# Altium schematic symbol library LOGTURTLE_APR_25_TX.SCHLIB: 138 symbols (part 2 of 2)
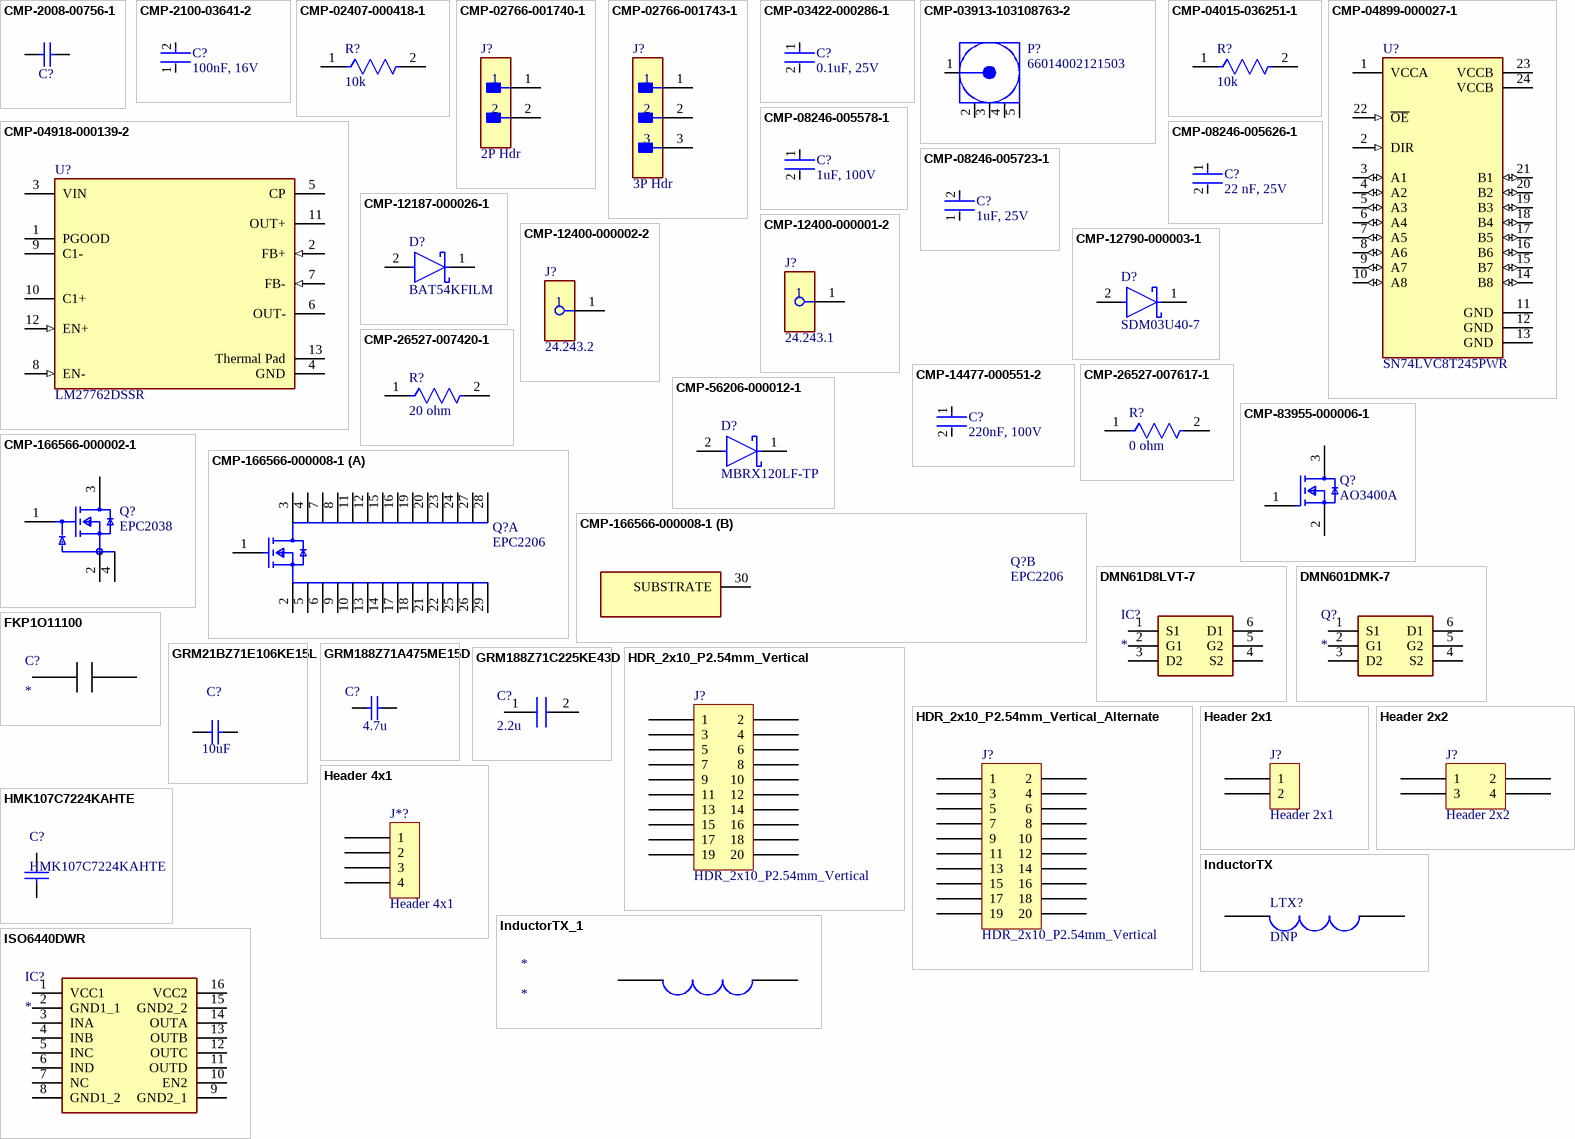
[diagram p5: symbols CMP-2008-00756-1 to ISO6440DWR]

## CMP-166566-000008-1
designator Q?, comment EPC2206
GANFET N-CH 80V 90A DIE; Input Capacitance: 1.94nF; Rds On Max: 2.2mR; Max Operating Temperature: 150°C; Drain to Source Voltage (Vdss): 80V; Packaging: Tape and Reel; Continuous Drain Current (ID): 90A; Mount: Surface Mount; Min Operating Temperature: -40°C
footprint FP-EPC2206-MFG
part A pins: 1 GATE, 2 SOURCE, 3 DRAIN, 4 DRAIN, 5 SOURCE, 6 SOURCE, 7 DRAIN, 8 DRAIN, 9 SOURCE, 10 SOURCE, 11 DRAIN, 12 DRAIN, 13 SOURCE, 14 SOURCE, 15 DRAIN, 16 DRAIN, 17 SOURCE, 18 SOURCE, 19 DRAIN, 20 DRAIN, 21 SOURCE, 22 SOURCE, 23 DRAIN, 24 DRAIN, 25 SOURCE, 26 SOURCE, 27 DRAIN, 28 DRAIN, 29 SOURCE
part B pins: 30 SUBSTRATE

## DMN61D8LVT-7
designator IC?
Integrated Circuit; Manufacturer_Name: Diodes Incorporated; Manufacturer_Part_Number: DMN61D8LVT-7; Datasheet Link: https://datasheet.datasheetarchive.com/originals/distributors/DKDS-29/577254.pdf; Height: 1mm; Mouser Part Number: 621-DMN61D8LVT-7; Mouser Price/Stock: https://www.mouser.co.uk/ProductDetail/Diodes-Incorporated/DMN61D8LVT-7?qs=HTMysCtKn0Fg7rO8GSpFlA%3D%3D; Arrow Part Number: DMN61D8LVT-7; Arrow Price/Stock: https://www.arrow.com/en/products/dmn61d8lvt-7/diodes-incorporated?region=nac
footprint SOT95P280X100-6N
pins: 1 S1, 2 G1, 3 D2, 4 S2, 5 G2, 6 D1

## DMN601DMK-7
designator Q?
MOSFET (N-Channel); Manufacturer_Name: Diodes Incorporated; Manufacturer_Part_Number: DMN601DMK-7; Datasheet Link: https://www.diodes.com//assets/Datasheets/ds30657.pdf; Height: 1.4mm; Mouser Part Number: 621-DMN601DMK-7; Mouser Price/Stock: https://www.mouser.co.uk/ProductDetail/Diodes-Incorporated/DMN601DMK-7?qs=mQbszxtPdlMzhImbd%2FELhA%3D%3D; Arrow Part Number: DMN601DMK-7; Arrow Price/Stock: https://www.arrow.com/en/products/dmn601dmk-7/diodes-incorporated
footprint SOT95P285X140-6N
pins: 1 S1, 2 G1, 3 D2, 4 S2, 5 G2, 6 D1

## FKP1O11100
designator C?
pins: 15, 16

## GRM21BZ71E106KE15L
designator C?, comment value 10uF  (hidden comment: 10μF)
Multilayer Ceramic Capacitor, 10 uF, 25 V, ï¿½ 10%, X7R, 0805 [2012 Metric] https://www.digikey.ie/en/products/detail/murata-electronics/GRM21BZ71E106KE15L/13904911; Manufacturer: Murata; Material: 4241ConductorMaterial; Voltage Rating: 25V; Supplier: Future Electronics; Supplier Part Number: 6134628; Manufacturer Part Number: GRM21BZ71E106KE15L; Category: Ceramic Capacitors; Stock: 81000; Case/Package: 339Case; Min Operating Temperature: -55°C; Max Operating Temperature: 125°C; Tolerance: 10%; Length: 2mm; Width: 1.25mm; Height: 1.45mm; Thickness: 1.25mm; RoHS Compliant: Yes; ComponentLink1URL: https://datasheet.octopart.com/GRM21BZ71E106KE15L-Murata-datasheet-141278873.pdf?src-supplier=Geoflip; ComponentLink1Description: https://datasheet.octopart.com/GRM21BZ71E106KE15L-Murata-datasheet-141278873.pdf?src-supplier=Geoflip; ComponentLink2URL: https://datasheet.octopart.com/GRM21BZ71E106KE15L-Murata-datasheet-165579666.pdf?src-supplier=TME; ComponentLink2Description: https://datasheet.octopart.com/GRM21BZ71E106KE15L-Murata-datasheet-165579666.pdf?src-supplier=TME; ComponentLink3URL: https://datasheet.octopart.com/GRM21BZ71E106KE15L-Murata-datasheet-140707837.pdf?src-supplier=Ciiva+Crawler; ComponentLink3Description: https://datasheet.octopart.com/GRM21BZ71E106KE15L-Murata-datasheet-140707837.pdf?src-supplier=Ciiva+Crawler; ComponentLink4URL: https://datasheet.octopart.com/GRM21BZ71E106KE15L-Murata-datasheet-138745134.pdf?src-supplier=Ciiva+Crawler; ComponentLink4Description: https://datasheet.octopart.com/GRM21BZ71E106KE15L-Murata-datasheet-138745134.pdf?src-supplier=Ciiva+Crawler
footprint CAPC2012X14N (Chip Capacitor, 2-Leads, Body 2.00x1.25mm, IPC Medium Density)
pins: 1, 2

## GRM188Z71A475ME15D
designator C?  value 4.7u  (hidden comment: *)
Capacitor, 4.7 µF ±20% 10V Ceramic Capacitor X7R 0603 (1608 Metric); Manufacturer_Name: Murata Electronics; Manufacturer_Part_Number: GRM188Z71A475ME15D; Datasheet Link: https://search.murata.co.jp/Ceramy/image/img/A01X/G101/ENG/GRM188Z71A475ME15-01A.pdf; Height: 0.9mm; Mouser Part Number: 81-GRM188Z71A475ME5D; Mouser Price/Stock: https://www.mouser.co.uk/ProductDetail/Murata-Electronics/GRM188Z71A475ME15D?qs=Ey7%2FXF42M3f7ZZnF1u%2FoMQ%3D%3D; Arrow Part Number: GRM188Z71A475ME15D; Arrow Price/Stock: https://www.arrow.com/en/products/grm188z71a475me15d/murata-manufacturing?utm_currency=USD&region=nac
footprint GRM18x
pins: 1, 2

## GRM188Z71C225KE43D
designator C?, comment 2.2u
Capacitor, 2.2 µF ±10% 16V Ceramic Capacitor X7R 0603 (1608 Metric); Manufacturer_Name: Murata Electronics; Manufacturer_Part_Number: GRM188Z71C225KE43D; Datasheet Link: https://search.murata.co.jp/Ceramy/image/img/A01X/G101/ENG/GRM188Z71C225KE43-01A.pdf; Height: 0.9mm; Mouser Part Number: 81-GRM188Z71C225KE3D; Mouser Price/Stock: https://www.mouser.co.uk/ProductDetail/Murata-Electronics/GRM188Z71C225KE43D?qs=Ey7%2FXF42M3cR7ECLHyzpoA%3D%3D; Arrow Part Number: GRM188Z71C225KE43D; Arrow Price/Stock: https://www.arrow.com/en/products/grm188z71c225ke43d/murata-manufacturing?utm_currency=USD&region=europe
footprint CAPC1608X09N (Chip Capacitor, 2-Leads, Body 1.60x0.80mm, IPC Medium Density)
pins: 1, 2

## HDR_2x10_P2.54mm_Vertical
designator J?
footprint HDR_2x10_P2.54mm_Vertical
pins: 1, 2, 3, 4, 5, 6, 7, 8, 9, 10, 11, 12, 13, 14, 15, 16, 17, 18, 19, 20

## HDR_2x10_P2.54mm_Vertical_Alternate
designator J?, comment HDR_2x10_P2.54mm_Vertical
footprint HDR_2x10_P2.54mm_Vertical - Alternate
pins: 1, 2, 3, 4, 5, 6, 7, 8, 9, 10, 11, 12, 13, 14, 15, 16, 17, 18, 19, 20

## Header 2x1
designator J?
footprint drrv (Footprint not found)
footprint HDRV2W64P0X254_1X2_508X250X850P
pins: 1, 2

## Header 2x2
designator J?
Connector Header Through Hole 4 position 0.100" (2.54mm), PH2-04-UA
footprint HEADER 2x2 (4 Pins Stiftleiste, 2.54mm)
pins: 1, 2, 3, 4

## Header 4x1
designator J*?
footprint HDRV4W64P0X254_1X4_1016X250X901P
pins: 1, 2, 3, 4

## HMK107C7224KAHTE
designator C?
Capacitor; Manufacturer_Name: TAIYO YUDEN; Capacitance: 100nF; Datasheet Link: https://componentsearchengine.com/Datasheets/1/HMK107C7224KAHTE.pdf; Height: 0.9mm; Manufacturer_Part_Number: HMK107C7224KAHTE; Mouser Part Number: 963-HMK107C7224KAHTE; Mouser Price/Stock: https://www.mouser.co.uk/ProductDetail/Taiyo-Yuden/HMK107C7224KAHTE?qs=VWNNG7jHlrKdSvXhIn%252BDVA%3D%3D
footprint CAPC1608X90N
pins: 1, 2

## InductorTX
designator LTX?, comment DNP
footprint SRN80408R2Y
footprint InductorTerminals
pins: 1, 2

## InductorTX_1
designator *
footprint InductorTerminals
pins: 12, + 13

## ISO6440DWR
designator IC?
Texas Instruments ISO6440DWR; Manufacturer_Part_Number: ISO6441DWR; Datasheet Link: https://www.ti.com/lit/ds/symlink/iso6441.pdf?ts=1759392249492&ref_url=https%253A%252F%252Fwww.ti.com%252Fproduct%252FISO6441; Height: 2.55mm; Manufacturer_Name: Texas Instruments
footprint SOIC127P1030X255-16N
pins: 1 VCC1, 2 GND1_1, 3 INA, 4 INB, 5 INC, 6 IND, 7 NC, 8 GND1_2, 9 GND2_1, 10 EN2, 11 OUTD, 12 OUTC, 13 OUTB, 14 OUTA, 15 GND2_2, 16 VCC2

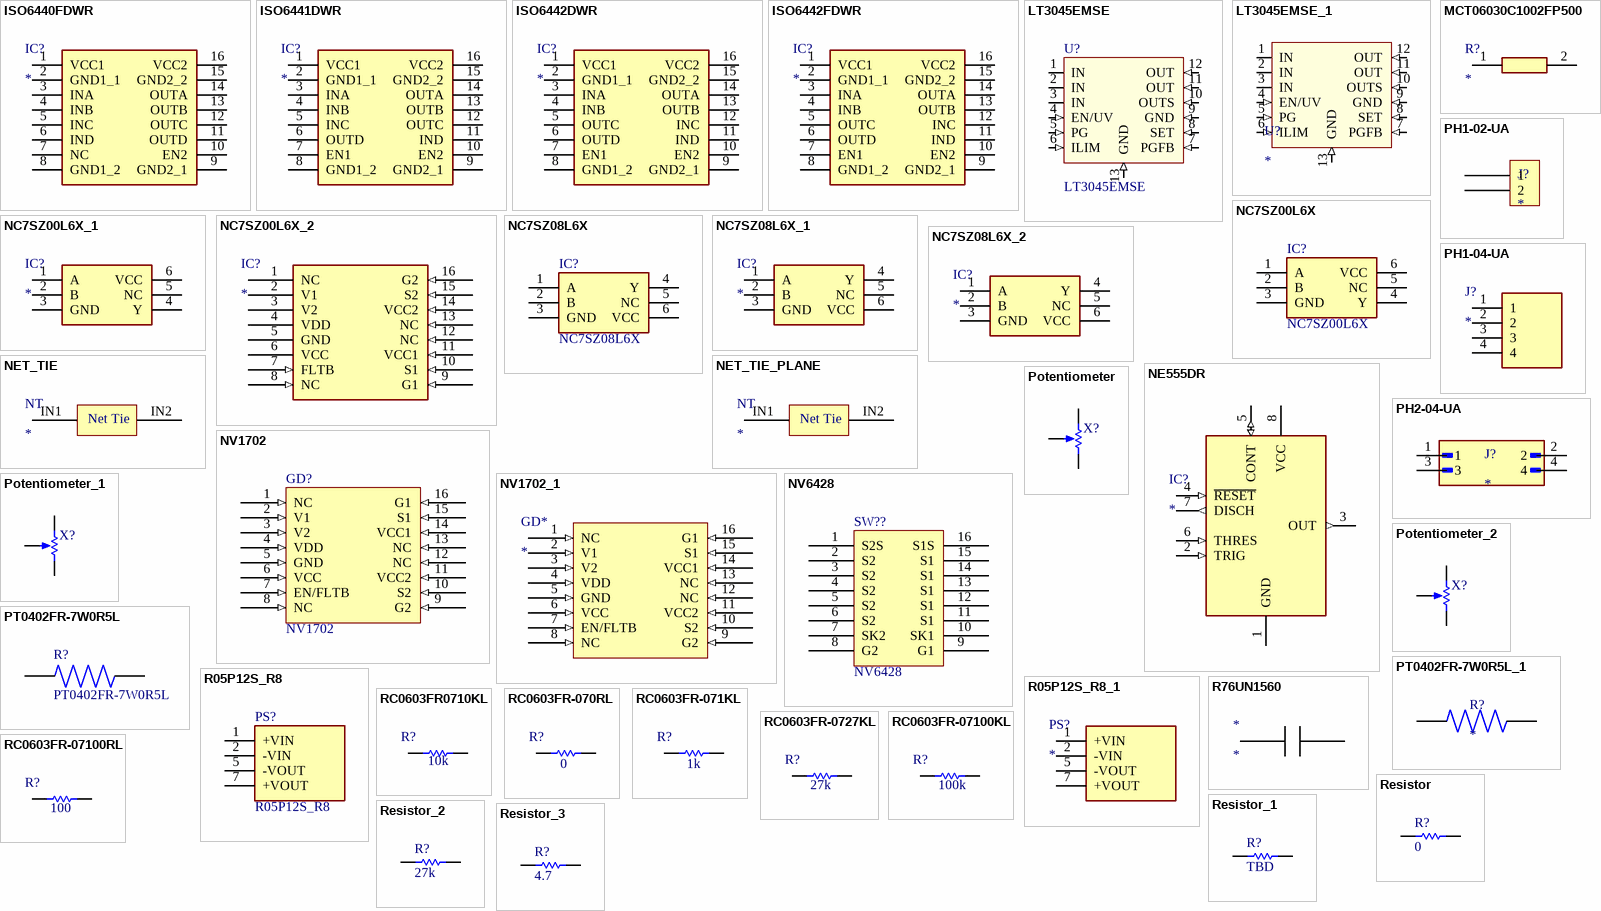
[diagram p2: symbols ISO6440FDWR to Resistor_3]

## ISO6440FDWR
designator IC?
Texas Instruments ISO6440FDWR; Manufacturer_Part_Number: ISO6441FDWR; Datasheet Link: https://www.ti.com/lit/ds/symlink/iso6441.pdf?ts=1759392249492&ref_url=https%253A%252F%252Fwww.ti.com%252Fproduct%252FISO6441; Height: 2.55mm; Manufacturer_Name: Texas Instruments
footprint SOIC127P1030X255-16N
pins: 1 VCC1, 2 GND1_1, 3 INA, 4 INB, 5 INC, 6 IND, 7 NC, 8 GND1_2, 9 GND2_1, 10 EN2, 11 OUTD, 12 OUTC, 13 OUTB, 14 OUTA, 15 GND2_2, 16 VCC2

## ISO6441DWR
designator IC?
Integrated Circuit; Manufacturer_Name: Texas Instruments; Manufacturer_Part_Number: ISO6441DWR; Datasheet Link: https://www.ti.com/lit/ds/symlink/iso6441.pdf?ts=1759392249492&ref_url=https%253A%252F%252Fwww.ti.com%252Fproduct%252FISO6441; Height: 2.55mm
footprint SOIC127P1030X255-16N
pins: 1 VCC1, 2 GND1_1, 3 INA, 4 INB, 5 INC, 6 OUTD, 7 EN1, 8 GND1_2, 9 GND2_1, 10 EN2, 11 IND, 12 OUTC, 13 OUTB, 14 OUTA, 15 GND2_2, 16 VCC2

## ISO6442DWR
designator IC?
Texas Instruments ISO6442DWR; Manufacturer_Part_Number: ISO6441DWR; Datasheet Link: https://www.ti.com/lit/ds/symlink/iso6441.pdf?ts=1759392249492&ref_url=https%253A%252F%252Fwww.ti.com%252Fproduct%252FISO6441; Height: 2.55mm; Manufacturer_Name: Texas Instruments
footprint SOIC127P1030X255-16N
pins: 1 VCC1, 2 GND1_1, 3 INA, 4 INB, 5 OUTC, 6 OUTD, 7 EN1, 8 GND1_2, 9 GND2_1, 10 EN2, 11 IND, 12 INC, 13 OUTB, 14 OUTA, 15 GND2_2, 16 VCC2

## ISO6442FDWR
designator IC?
Texas Instruments ISO6442FDWR; Manufacturer_Part_Number: ISO6441FDWR; Datasheet Link: https://www.ti.com/lit/ds/symlink/iso6441.pdf?ts=1759392249492&ref_url=https%253A%252F%252Fwww.ti.com%252Fproduct%252FISO6441; Height: 2.55mm; Manufacturer_Name: Texas Instruments
footprint SOIC127P1030X255-16N
pins: 1 VCC1, 2 GND1_1, 3 INA, 4 INB, 5 OUTC, 6 OUTD, 7 EN1, 8 GND1_2, 9 GND2_1, 10 EN2, 11 IND, 12 INC, 13 OUTB, 14 OUTA, 15 GND2_2, 16 VCC2

## LT3045EMSE
designator U?
20V, 500mA, Ultralow Noise, Ultrahigh PSRR Linear Regulator  https://www.digikey.ie/en/products/detail/analog-devices-inc/LT3045EMSE-PBF/6234771
footprint TSOP65P490X110_HS-13N (TSOP, 12-Leads, Body 4.04x3.00mm, Pitch 0.65mm, Thermal Pad 2.95x1.76mm, IPC Medium Density)
pins: 1 IN, 2 IN, 3 IN, 4 EN/UV (in), 5 PG (in), 6 ILIM (in), 7 PGFB (in), 8 SET (in), 9 GND (in), 10 OUTS (in), 11 OUT (in), 12 OUT (in), 13 GND (in)

## LT3045EMSE_1
designator U?
20V, 500mA, Ultralow Noise, Ultrahigh PSRR Linear Regulator  https://www.digikey.ie/en/products/detail/analog-devices-inc/LT3045EMSE-PBF/6234771
footprint TSOP65P490X110_HS-13N (TSOP, 12-Leads, Body 4.04x3.00mm, Pitch 0.65mm, Thermal Pad 2.95x1.76mm, IPC Medium Density)
pins: 1 IN, 2 IN, 3 IN, 4 EN/UV (in), 5 PG (in), 6 ILIM (in), 7 PGFB (in), 8 SET (in), 9 GND (in), 10 OUTS (in), 11 OUT (in), 12 OUT (in), 13 GND (in)

## MCT06030C1002FP500
designator R?
Resistor, SMD 100 OHM 1% 1/8W 0603; Manufacturer_Name: Vishay; Manufacturer_Part_Number: MCT06030C1002FP500; Datasheet Link: http://www.vishay.com/docs/28705/mcx0x0xpro.pdf; Height: 0.55mm; Mouser Part Number: 594-MCT06030C1002FP5; Mouser Price/Stock: https://www.mouser.co.uk/ProductDetail/Vishay-Beyschlag/MCT06030C1002FP500?qs=Wvg1umJc15zoHgIjwqoGHw%3D%3D; Arrow Part Number: MCT06030C1002FP500; Arrow Price/Stock: https://www.arrow.com/en/products/mct06030c1002fp500/vishay?utm_currency=USD&region=europe
footprint RESC1608X55N
pins: 1, 2

## NC7SZ00L6X
designator IC?
Integrated Circuit; Manufacturer_Name: onsemi; Datasheet Link: https://www.onsemi.com/pub/Collateral/NC7SZ00-D.PDF; Height: 0.55mm; Manufacturer_Part_Number: NC7SZ00L6X; Mouser Part Number: 512-NC7SZ00L6X; Mouser Price/Stock: https://www.mouser.co.uk/ProductDetail/ON-Semiconductor-Fairchild/NC7SZ00L6X/?qs=AFLC8Sm4xaWQG%252BOWUdD%2FRg%3D%3D; Arrow Part Number: NC7SZ00L6X; Arrow Price/Stock: https://www.arrow.com/en/products/nc7sz00l6x/on-semiconductor
footprint NC7SZ00L6X
pins: 1 A, 2 B, 3 GND, 4 Y, 5 NC, 6 VCC

## NC7SZ00L6X_1
designator IC?
Integrated Circuit; Manufacturer_Name: onsemi; Manufacturer_Part_Number: NC7SZ00L6X; Datasheet Link: https://www.onsemi.com/pub/Collateral/NC7SZ00-D.PDF; Height: 0.55mm; Mouser Part Number: 512-NC7SZ00L6X; Mouser Price/Stock: https://www.mouser.co.uk/ProductDetail/ON-Semiconductor-Fairchild/NC7SZ00L6X/?qs=AFLC8Sm4xaWQG%252BOWUdD%2FRg%3D%3D; Arrow Part Number: NC7SZ00L6X; Arrow Price/Stock: https://www.arrow.com/en/products/nc7sz00l6x/on-semiconductor
footprint NC7SZ00L6X
pins: 1 A, 2 B, 3 GND, 4 Y, 5 NC, 6 VCC

## NC7SZ00L6X_2
designator IC?
Integrated Circuit; Manufacturer_Name: onsemi; Manufacturer_Part_Number: NC7SZ00L6X; Datasheet Link: https://www.onsemi.com/pub/Collateral/NC7SZ00-D.PDF; Height: 0.55mm; Mouser Part Number: 512-NC7SZ00L6X; Mouser Price/Stock: https://www.mouser.co.uk/ProductDetail/ON-Semiconductor-Fairchild/NC7SZ00L6X/?qs=AFLC8Sm4xaWQG%252BOWUdD%2FRg%3D%3D; Arrow Part Number: NC7SZ00L6X; Arrow Price/Stock: https://www.arrow.com/en/products/nc7sz00l6x/on-semiconductor
footprint NC7SZ00L6X
footprint NC7SZ00L6X
pins: 1 NC, 2 V1, 3 V2, 4 VDD, 5 GND, 6 VCC, 7 FLTB (in), 8 NC (in), 9 G1 (in), 10 S1 (in), 11 VCC1 (in), 12 NC (in), 13 NC (in), 14 VCC2 (in), 15 S2 (in), 16 G2 (in)

## NC7SZ08L6X
designator IC?
Integrated Circuit; Manufacturer_Name: onsemi; Datasheet Link: https://www.onsemi.com/pub/Collateral/NC7SZ08-D.PDF; Height: 0.55mm; Manufacturer_Part_Number: NC7SZ08L6X; Mouser Part Number: 512-NC7SZ08L6X; Mouser Price/Stock: https://www.mouser.co.uk/ProductDetail/onsemi-Fairchild/NC7SZ08L6X?qs=u2B728UsA6qfPyNlTO4c7w%3D%3D; Arrow Part Number: NC7SZ08L6X; Arrow Price/Stock: https://www.arrow.com/en/products/nc7sz08l6x/on-semiconductor
footprint NC7SZ08L6X
pins: 1 A, 2 B, 3 GND, 4 Y, 5 NC, 6 VCC

## NC7SZ08L6X_1
designator IC?
Integrated Circuit; Manufacturer_Name: onsemi; Manufacturer_Part_Number: NC7SZ08L6X; Datasheet Link: https://www.onsemi.com/pub/Collateral/NC7SZ08-D.PDF; Height: 0.55mm; Mouser Part Number: 512-NC7SZ08L6X; Mouser Price/Stock: https://www.mouser.co.uk/ProductDetail/onsemi-Fairchild/NC7SZ08L6X?qs=u2B728UsA6qfPyNlTO4c7w%3D%3D; Arrow Part Number: NC7SZ08L6X; Arrow Price/Stock: https://www.arrow.com/en/products/nc7sz08l6x/on-semiconductor
footprint NC7SZ08L6X
pins: 1 A, 2 B, 3 GND, 4 Y, 5 NC, 6 VCC

## NC7SZ08L6X_2
designator IC?
Integrated Circuit; Manufacturer_Name: onsemi; Manufacturer_Part_Number: NC7SZ08L6X; Datasheet Link: https://www.onsemi.com/pub/Collateral/NC7SZ08-D.PDF; Height: 0.55mm; Mouser Part Number: 512-NC7SZ08L6X; Mouser Price/Stock: https://www.mouser.co.uk/ProductDetail/onsemi-Fairchild/NC7SZ08L6X?qs=u2B728UsA6qfPyNlTO4c7w%3D%3D; Arrow Part Number: NC7SZ08L6X; Arrow Price/Stock: https://www.arrow.com/en/products/nc7sz08l6x/on-semiconductor
footprint NC7SZ08L6X
footprint NC7SZ08L6X
pins: 1 A, 2 B, 3 GND, 4 Y, 5 NC, 6 VCC

## NE555DR
designator IC?
Integrated Circuit; Manufacturer_Name: Texas Instruments; Manufacturer_Part_Number: NE555DR; Datasheet Link: http://www.ti.com/lit/ds/symlink/ne555.pdf; Height: 1.75mm; Mouser Part Number: 595-NE555DR; Mouser Price/Stock: https://www.mouser.com/Search/Refine.aspx?Keyword=595-NE555DR; RS Part Number: 1218414; RS Price/Stock: http://uk.rs-online.com/web/p/products/1218414
footprint SOIC127P600X175-8N
pins: 1 GND (power), 2 TRIG (in), 3 OUT (out), 4 ~{RESET} (in), 5 CONT (io), 6 THRES (in), 7 DISCH (out), 8 VCC (power)

## NET_TIE
designator NT
footprint NET_TIE (Footprint not found)
pins: IN1, IN2
text: Net Tie

## NET_TIE_PLANE
designator NT
footprint NET_TIE_PLANE (Footprint not found)
pins: IN1, IN2
text: Net Tie

## NV1702
designator GD?
Isolated gate driver for bidirectional switch / https://navitassemi.com/wp-content/plugins/gb-navitas-stock-checker/product_files/PDS-NV1702.pdf
footprint SOIC127P600X175-16N (SOIC, 16-Leads, Body 9.90x3.90mm, Pitch 1.27mm, IPC Medium Density)
pins: 1 NC (in), 2 V1 (in), 3 V2 (in), 4 VDD (in), 5 GND (in), 6 VCC (in), 7 EN/FLTB (in), 8 NC (in), 9 G2 (in), 10 S2 (in), 11 VCC2 (in), 12 NC (in), 13 NC (in), 14 VCC1 (in), 15 S1 (in), 16 G1 (in)

## NV1702_1
designator GD*
Isolated gate driver for bidirectional switch / https://navitassemi.com/wp-content/plugins/gb-navitas-stock-checker/product_files/PDS-NV1702.pdf
pins: 1 NC (in), 2 V1 (in), 3 V2 (in), 4 VDD (in), 5 GND (in), 6 VCC (in), 7 EN/FLTB (in), 8 NC (in), 9 G2 (in), 10 S2 (in), 11 VCC2 (in), 12 NC (in), 13 NC (in), 14 VCC1 (in), 15 S1 (in), 16 G1 (in)

## NV6428
designator SW??
Navitas bidirection GaN switch / https://navitassemi.com/wp-content/plugins/gb-navitas-stock-checker/product_files/NV6428_70mO%20Max_Bi-Directional%20GaNFast_TOLT.pdf
pins: 1 S2S, 2 S2, 3 S2, 4 S2, 5 S2, 6 S2, 7 SK2 (hiz), 8 G2 (hiz), 9 G1 (hiz), 10 SK1 (hiz), 11 S1, 12 S1, 13 S1, 14 S1, 15 S1, 16 S1S

## PH1-02-UA
designator J?
Connector; Manufacturer_Name: Adam Tech; Manufacturer_Part_Number: PH1-02-UA; Datasheet Link: https://datasheet.datasheetarchive.com/originals/distributors/Datasheets_SAMA/22522227e000bb8d8f26a3580c1bb98b.pdf; Height: 8.5mm; Mouser Part Number: 737-PH1-02-UA; Mouser Price/Stock: https://www.mouser.co.uk/ProductDetail/Adam-Tech/PH1-02-UA?qs=HoCaDK9Nz5dVT5LAE%2F6mlA%3D%3D; Arrow Part Number: PH1-02-UA; Arrow Price/Stock: https://www.arrow.com/en/products/ph1-02-ua/adam-tech?utm_currency=USD&region=europe
footprint HDRV2W64P0X254_1X2_508X250X850P
pins: 1, 2

## PH1-04-UA
designator J?
Connector; Manufacturer_Name: Adam Tech; Manufacturer_Part_Number: PH1-04-UA; Datasheet Link: https://datasheet.datasheetarchive.com/originals/distributors/Datasheets_SAMA/22522227e000bb8d8f26a3580c1bb98b.pdf; Height: 9.008mm; Mouser Part Number: 737-PH1-04-UA; Mouser Price/Stock: https://www.mouser.co.uk/ProductDetail/Adam-Tech/PH1-04-UA?qs=HoCaDK9Nz5fnp3pp8iwrSQ%3D%3D; Arrow Part Number: PH1-04-UA; Arrow Price/Stock: https://www.arrow.com/en/products/ph1-04-ua/adam-tech?utm_currency=USD&region=nac
footprint HDRV4W64P0X254_1X4_1016X250X901P
pins: 1, 2, 3, 4

## PH2-04-UA
designator J?
Pin Header 4P .100 Pitch Plug | Adam Tech PH2-04-UA; SnapEDA_Link: https://www.snapeda.com/parts/PH2-04-UA/Adam+Tech/view-part/?ref=snap; Package: None; Value: *; MF: Adam Tech; MP: PH2-04-UA; Check_prices: https://www.snapeda.com/parts/PH2-04-UA/Adam+Tech/view-part/?ref=eda
footprint ADAM_PH2-04-UA
pins: 1, 2, 3, 4

## Potentiometer
designator X?  (value not drawn)
value: 1k; position: 0.5; SimulationGenericComponent: True
simulation model POT (POTENTIOMETER)
pins: 1 TOP, 2 BOT, 3 TAP

## Potentiometer_1
designator X?, comment Potentiometer  (value not drawn)
Potentiometer 250k-350k; value: 1k; position: 0.5; SimulationGenericComponent: True
simulation model POT (POTENTIOMETER)
pins: 1 TOP, 2 BOT, 3 TAP

## Potentiometer_2
designator X?, comment Potentiometer  (value not drawn)
Potentiometer 10-20 Ohm; value: 1k; position: 0.5; SimulationGenericComponent: True
simulation model POT (POTENTIOMETER)
pins: 1 TOP, 2 BOT, 3 TAP

## PT0402FR-7W0R5L
designator R?
500 mOhms Â±1% 0.125W, 1/8W Chip Resistor 0402 (1005 Metric) Automotive AEC-Q200, Current Sense, Moisture Resistant Thick Film; MF: Yageo; Price: None; Value: *; Check_prices: https://www.snapeda.com/parts/PT0402FR-7W0R5L/Yageo/view-part/1010867/?ref=eda; Package: 1005 Yageo; SnapEDA_Link: https://www.snapeda.com/parts/PT0402FR-7W0R5L/Yageo/view-part/1010867/?ref=snap; Availability: Bad; MP: PT0402FR-7W0R5L
footprint RESC1005X40N
pins: 1, 2

## PT0402FR-7W0R5L_1
designator R?
500 mOhms Â±1% 0.125W, 1/8W Chip Resistor 0402 (1005 Metric) Automotive AEC-Q200, Current Sense, Moisture Resistant Thick Film; MF: Yageo; MP: PT0402FR-7W0R5L; Price: None; Value: *; Check_prices: https://www.snapeda.com/parts/PT0402FR-7W0R5L/Yageo/view-part/1010867/?ref=eda; Package: 1005 Yageo; SnapEDA_Link: https://www.snapeda.com/parts/PT0402FR-7W0R5L/Yageo/view-part/1010867/?ref=snap; Availability: Bad
footprint RESC1005X40N
pins: 1, 2

## R05P12S_R8
designator PS?
Power Supply; Manufacturer_Name: RECOM Power; Manufacturer_Part_Number: R05P12S/R8; Datasheet Link: https://www.mouser.de/datasheet/2/468/RxxPxx_R-1710046.pdf; Height: 13mm; Mouser Part Number: 919-R05P12SR8; Mouser Price/Stock: https://www.mouser.co.uk/ProductDetail/RECOM-Power/R05P12S-R8?qs=%252BHKxvJ84kqo5EQ%2FKTjgTzw%3D%3D
footprint R05P12SR8
pins: 1 +VIN, 2 -VIN, 5 -VOUT, 7 +VOUT

## R05P12S_R8_1
designator PS?
Power Supply; Manufacturer_Name: RECOM Power; Manufacturer_Part_Number: R05P12S/R8; Datasheet Link: https://www.mouser.de/datasheet/2/468/RxxPxx_R-1710046.pdf; Height: 13mm; Mouser Part Number: 919-R05P12SR8; Mouser Price/Stock: https://www.mouser.co.uk/ProductDetail/RECOM-Power/R05P12S-R8?qs=%252BHKxvJ84kqo5EQ%2FKTjgTzw%3D%3D
footprint R05P12SR8
pins: 1 +VIN, 2 -VIN, 5 -VOUT, 7 +VOUT

## R76UN1560
designator *
footprint R76UN1560
pins: 15, 16

## RC0603FR0710KL
designator R?  value 10k  (hidden comment: *)
Resistor, 10 kOhms ±1% 0.1W, 1/10W Chip Resistor 0603 (1608 Metric) Moisture Resistant Thick Film; Manufacturer_Name: YAGEO; Manufacturer_Part_Number: RC0603FR0710KL; Datasheet Link: http://www.yageo.com/documents/recent/PYu-RC0603_51_RoHS_L_v5.pdf; Height: 0.55mm; Arrow Part Number: RC0603FR0710KL; Arrow Price/Stock: https://www.arrow.com/en/products/rc0603fr-0710kl/yageo
footprint RESC1608X55N
pins: 1, 2

## RC0603FR-070RL
designator R?  value 0  (hidden comment: *)
Resistor, 0 Ohms Jumper 0.1W, 1/10W Chip Resistor 0603 (1608 Metric) Moisture Resistant Thick Film; Manufacturer_Name: YAGEO; Manufacturer_Part_Number: RC0603FR-070RL; Datasheet Link: http://www.yageo.com/documents/recent/PYu-RC0603_51_RoHS_L_v5.pdf; Height: 0.55mm; Mouser Part Number: 603-RC0603FR-070RL; Mouser Price/Stock: https://www.mouser.co.uk/ProductDetail/YAGEO/RC0603FR-070RL?qs=0yPvnVz5%2FmpDQv43TwvCfw%3D%3D; Arrow Part Number: RC0603FR-070RL; Arrow Price/Stock: https://www.arrow.com/en/products/rc0603fr-070rl/yageo?region=nac
footprint RESC1608X55N
pins: 1, 2

## RC0603FR-071KL
designator R?  value 1k  (hidden comment: *)
Resistor, 1 kOhms ±1% 0.1W, 1/10W Chip Resistor 0603 (1608 Metric) Moisture Resistant Thick Film; Manufacturer_Name: YAGEO; Manufacturer_Part_Number: RC0603FR-071KL; Datasheet Link: https://www.yageo.com/upload/media/product/productsearch/datasheet/rchip/PYu-RC_Group_51_RoHS_L_12.pdf; Height: 0.55mm; Mouser Part Number: 603-RC0603FR-071KL; Mouser Price/Stock: https://www.mouser.co.uk/ProductDetail/YAGEO/RC0603FR-071KL?qs=VU8sRB4EgwApHsk4rF%2F3zg%3D%3D; Arrow Part Number: RC0603FR-071KL; Arrow Price/Stock: https://www.arrow.com/en/products/rc0603fr-071kl/yageo?utm_currency=USD&region=nac
footprint RESC1608X55N
pins: 1, 2

## RC0603FR-0727KL
designator R?  value 27k  (hidden comment: *)
Resistor, 27 kOhms ±1% 0.1W, 1/10W Chip Resistor 0603 (1608 Metric) Moisture Resistant Thick Film; Manufacturer_Name: YAGEO; Manufacturer_Part_Number: RC0603FR-07100KL; Datasheet Link: https://www.yageo.com/upload/media/product/productsearch/datasheet/rchip/PYu-RC_Group_51_RoHS_L_12.pdf; Height: 0.55mm; Mouser Part Number: 603-RC0603FR-07100KL; Mouser Price/Stock: https://www.mouser.co.uk/ProductDetail/YAGEO/RC0603FR-07100KL?qs=e1ok2LiJcmaihem8Va5%2Fsw%3D%3D; Arrow Part Number: RC0603FR-07100KL; Arrow Price/Stock: https://www.arrow.com/en/products/rc0603fr-07100kl/yageo?utm_currency=USD&region=europe
footprint RESC1608X55N
pins: 1, 2

## RC0603FR-07100KL
designator R?  value 100k  (hidden comment: *)
Resistor, 100 kOhms ±1% 0.1W, 1/10W Chip Resistor 0603 (1608 Metric) Moisture Resistant Thick Film; Manufacturer_Name: YAGEO; Manufacturer_Part_Number: RC0603FR-07100KL; Datasheet Link: https://www.yageo.com/upload/media/product/productsearch/datasheet/rchip/PYu-RC_Group_51_RoHS_L_12.pdf; Height: 0.55mm; Mouser Part Number: 603-RC0603FR-07100KL; Mouser Price/Stock: https://www.mouser.co.uk/ProductDetail/YAGEO/RC0603FR-07100KL?qs=e1ok2LiJcmaihem8Va5%2Fsw%3D%3D; Arrow Part Number: RC0603FR-07100KL; Arrow Price/Stock: https://www.arrow.com/en/products/rc0603fr-07100kl/yageo?utm_currency=USD&region=europe
footprint RESC1608X55N
pins: 1, 2

## RC0603FR-07100RL
designator R?  value 100  (hidden comment: *)
Resistor, 100 Ohms ±1% 0.1W, 1/10W Chip Resistor 0603 (1608 Metric) Moisture Resistant Thick Film; Manufacturer_Name: YAGEO; Manufacturer_Part_Number: RC0603FR-07100RL; Datasheet Link: http://www.yageo.com/documents/recent/PYu-RC0603_51_RoHS_L_v5.pdf; Height: 0.55mm; Mouser Part Number: 603-RC0603FR-07100RL; Mouser Price/Stock: https://www.mouser.co.uk/ProductDetail/YAGEO/RC0603FR-07100RL?qs=NEN%2FsE%2FLsvPIwIWKCOS4%2FA%3D%3D; Arrow Part Number: RC0603FR-07100RL; Arrow Price/Stock: https://www.arrow.com/en/products/rc0603fr-07100rl/yageo?region=europe
footprint RESC1608X55N
pins: 1, 2

## Resistor
designator R?  value 0  (hidden comment: Resistor)
SimulationGenericComponent: True; TC1: 0; TC2: 0
simulation model R_Resistor_Default (Model Description)
pins: 1, 2

## Resistor_1
designator R?, comment TBD
Resistor; TC1: 0; SimulationGenericComponent: True; TC2: 0; Value: TBD
simulation model R_Resistor_Default (Model Description)
pins: 1, 2

## Resistor_2
designator R?, comment value 27k  (hidden comment: TBD)
Resistor; TC1: 0; SimulationGenericComponent: True; TC2: 0
simulation model R_Resistor_Default (Model Description)
pins: 1, 2

## Resistor_3
designator R?, comment value 4.7  (hidden comment: 4.7 ohm)
Resistor; TC1: 0; SimulationGenericComponent: True; TC2: 0
simulation model R_Resistor_Default (Model Description)
pins: 1, 2

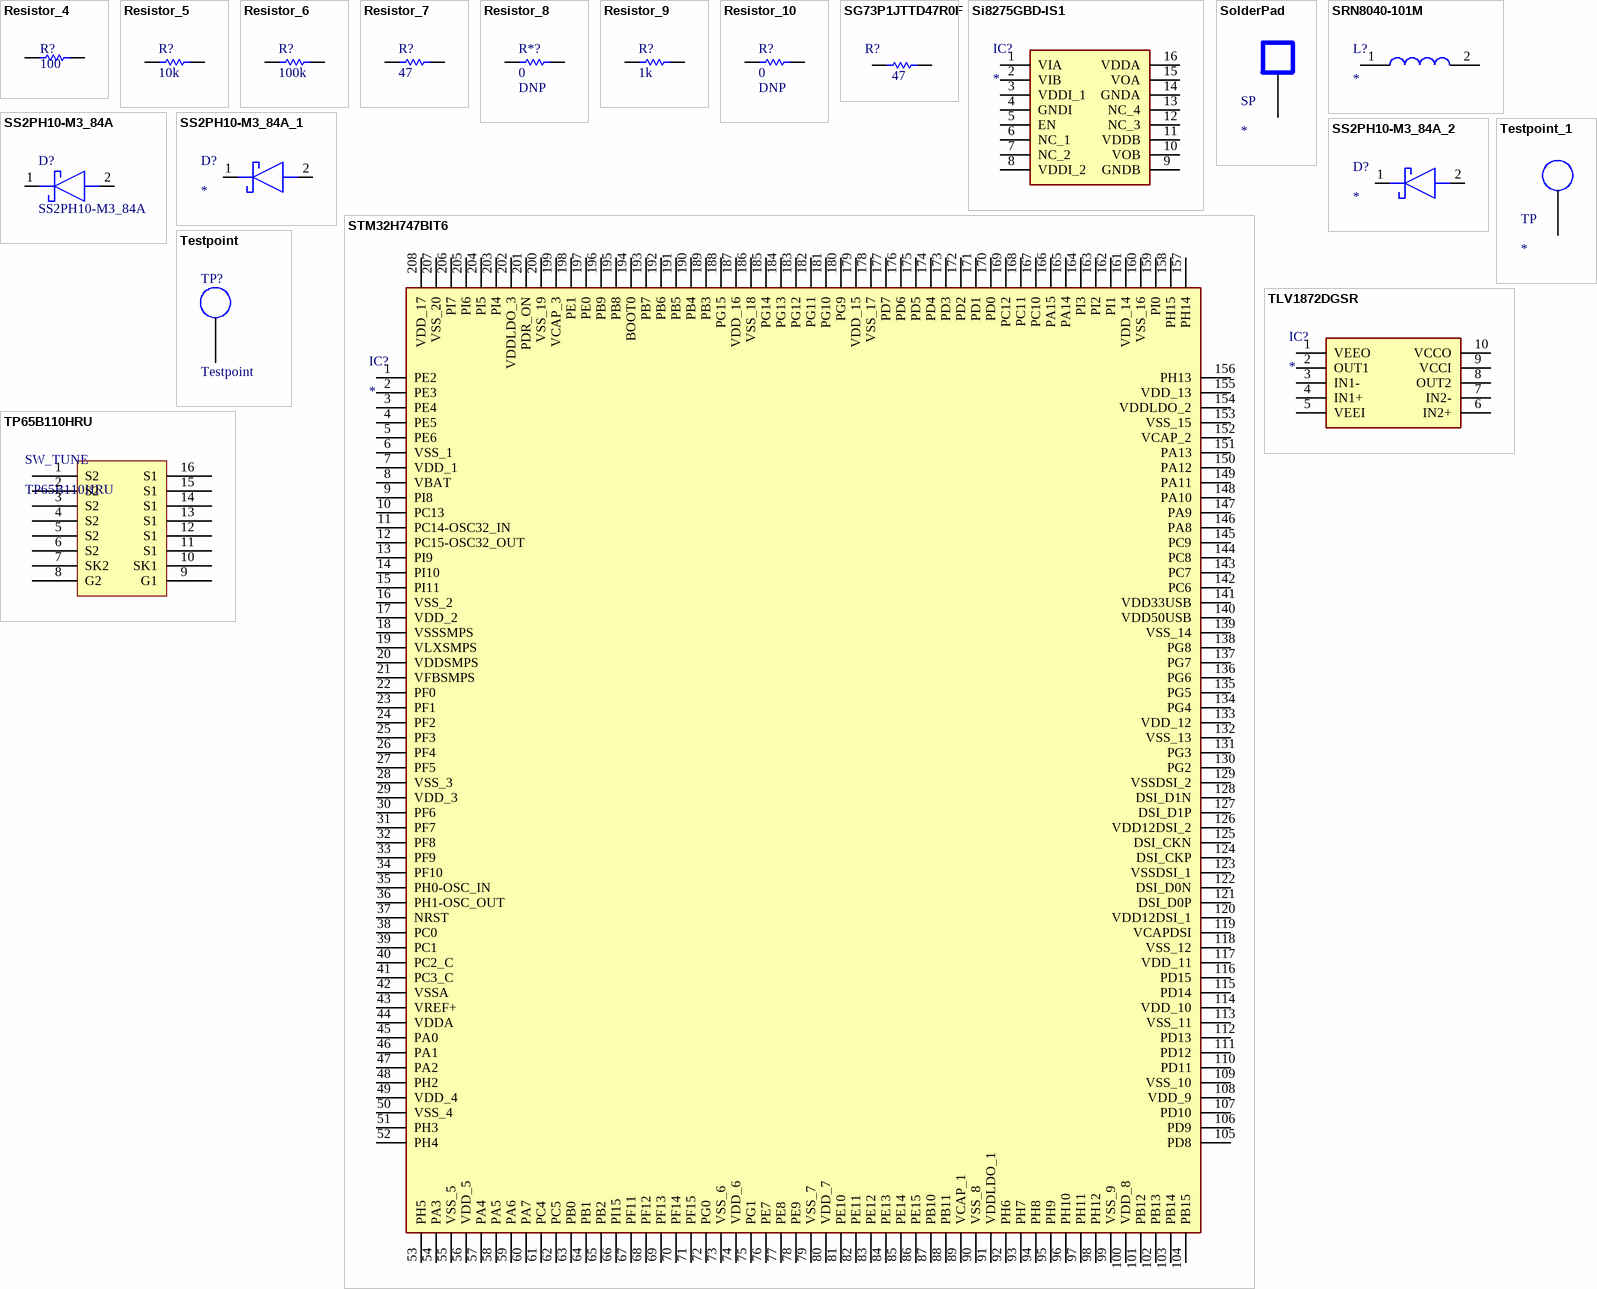
[diagram p3: symbols Resistor_4 to TP65B110HRU]

## Resistor_4
designator R?, comment value 100  (hidden comment: Resistor)
TC1: 0; SimulationGenericComponent: True; TC2: 0
simulation model R_Resistor_Default (Model Description)
pins: 1, 2

## Resistor_5
designator R?, comment value 10k  (hidden comment: Resistor)
TC1: 0; SimulationGenericComponent: True; TC2: 0
simulation model R_Resistor_Default (Model Description)
pins: 1, 2

## Resistor_6
designator R?, comment value 100k  (hidden comment: Resistor)
TC1: 0; SimulationGenericComponent: True; TC2: 0
simulation model R_Resistor_Default (Model Description)
pins: 1, 2

## Resistor_7
designator R?, comment value 47  (hidden comment: Resistor)
TC1: 0; SimulationGenericComponent: True; TC2: 0
simulation model R_Resistor_Default (Model Description)
pins: 1, 2

## Resistor_8
designator R*?, comment DNP  value 0
SimulationGenericComponent: True; TC1: 0; TC2: 0
simulation model R_Resistor_Default (Model Description)
pins: 1, 2

## Resistor_9
designator R?, comment value 1k  (hidden comment: Resistor)
TC1: 0; SimulationGenericComponent: True; TC2: 0
simulation model R_Resistor_Default (Model Description)
pins: 1, 2

## Resistor_10
designator R?, comment DNP  value 0
Resistor; SimulationGenericComponent: True; TC1: 0; TC2: 0
simulation model R_Resistor_Default (Model Description)
pins: 1, 2

## SG73P1JTTD47R0F
designator R?  value 47  (hidden comment: *)
RESISTOR, SURGE, 47 OHM 1% 0603; Resistance:47ohm; Resistance Tolerance:Â± 1%; Power Rating:125mW; Voltage Rating:50V; Temperature Coefficient:Â± 200ppm/Â°C; Resistor Element Material:Thick Film; Resistor Case Style:0603; Resistor Mounting:SMD; External D; MF: KOA Speer; MP: SG73P1JTTD47R0F; SnapEDA_Link: https://www.snapeda.com/parts/SG73P1JTTD47R0F/KOA+Speer/view-part/?ref=snap; Package: 603 KOA; Check_prices: https://www.snapeda.com/parts/SG73P1JTTD47R0F/KOA+Speer/view-part/?ref=eda
footprint RESC1608X55N
pins: 1, 2

## Si8275GBD-IS1
designator IC?
Integrated Circuit; Manufacturer_Name: Silicon Labs; Manufacturer_Part_Number: Si8275GBD-IS1; Description: SILICON LABS - SI8275GBD-IS1 - Digital Isolator; Datasheet Link: https://www.silabs.com/documents/public/data-sheets/Si827x.pdf; Height: 1.75mm; Mouser Part Number: 634-SI8275GBD-IS1; Mouser Price/Stock: https://www.mouser.co.uk/ProductDetail/Silicon-Labs/SI8275GBD-IS1?qs=j6MGy4L9yX2SPc9HOZMvjA%3D%3D; Arrow Part Number: SI8275GBD-IS1; Arrow Price/Stock: https://www.arrow.com/en/products/si8275gbd-is1/silicon-labs
footprint SOIC127P600X175-16N (SOIC, 16-Leads, Body 9.90x3.90mm, Pitch 1.27mm, IPC Medium Density)
pins: 1 VIA, 2 VIB, 3 VDDI_1, 4 GNDI, 5 EN, 6 NC_1, 7 NC_2, 8 VDDI_2, 9 GNDB, 10 VOB, 11 VDDB, 12 NC_3, 13 NC_4, 14 GNDA, 15 VOA, 16 VDDA

## SolderPad
designator SP
pins: ?1

## SRN8040-101M
designator L?
Inductor; Manufacturer_Name: Bourns; Manufacturer_Part_Number: SRN8040-101M; Datasheet Link: https://www.bourns.com/pdfs/SRN8040.pdf; Height: 4mm; Mouser Part Number: 652-SRN8040-101M; Mouser Price/Stock: https://www.mouser.co.uk/ProductDetail/Bourns/SRN8040-101M?qs=opBjA1TV902pEUqOZBsqAg%3D%3D; Arrow Part Number: SRN8040-101M; Arrow Price/Stock: https://www.arrow.com/en/products/srn8040-101m/bourns?utm_currency=USD&region=europe
footprint SRN80408R2Y
pins: 1, 2

## SS2PH10-M3_84A
designator D?
Schottky Diode; Manufacturer_Name: Vishay; Manufacturer_Part_Number: SS2PH10-M3/84A; Datasheet Link: https://www.vishay.com/docs/84682/ss2ph9.pdf; Mouser Part Number: 625-SS2PH10-M3; Mouser Price/Stock: https://www.mouser.co.uk/ProductDetail/Vishay-General-Semiconductor/SS2PH10-M3-84A?qs=2u8eEi%2F8yFWdOPY7KNSV1w%3D%3D; Arrow Part Number: SS2PH10-M3/84A; Arrow Price/Stock: https://www.arrow.com/en/products/ss2ph10-m384a/vishay?utm_currency=USD&region=nac
footprint DO-220AA
pins: 1 K, 2 A

## SS2PH10-M3_84A_1
designator D?
Schottky Diode; Manufacturer_Name: Vishay; Manufacturer_Part_Number: SS2PH10-M3/84A; Datasheet Link: https://www.vishay.com/docs/84682/ss2ph9.pdf; Mouser Part Number: 625-SS2PH10-M3; Mouser Price/Stock: https://www.mouser.co.uk/ProductDetail/Vishay-General-Semiconductor/SS2PH10-M3-84A?qs=2u8eEi%2F8yFWdOPY7KNSV1w%3D%3D; Arrow Part Number: SS2PH10-M3/84A; Arrow Price/Stock: https://www.arrow.com/en/products/ss2ph10-m384a/vishay?utm_currency=USD&region=nac
footprint DO-220AA
pins: 1 K, 2 A

## SS2PH10-M3_84A_2
designator D?
Schottky Diode; Manufacturer_Name: Vishay; Manufacturer_Part_Number: SS2PH10-M3/84A; Datasheet Link: https://www.vishay.com/docs/84682/ss2ph9.pdf; Mouser Part Number: 625-SS2PH10-M3; Mouser Price/Stock: https://www.mouser.co.uk/ProductDetail/Vishay-General-Semiconductor/SS2PH10-M3-84A?qs=2u8eEi%2F8yFWdOPY7KNSV1w%3D%3D; Arrow Part Number: SS2PH10-M3/84A; Arrow Price/Stock: https://www.arrow.com/en/products/ss2ph10-m384a/vishay?utm_currency=USD&region=nac
footprint DO-220AA
pins: 1 K, 2 A

## STM32H747BIT6
designator IC?
Integrated Circuit; Manufacturer_Name: STMicroelectronics; Manufacturer_Part_Number: STM32H747BIT6; Datasheet Link: https://www.st.com/resource/en/datasheet/stm32h747ag.pdf; Height: 1.6mm; Mouser Part Number: 511-STM32H747BIT6; Mouser Price/Stock: https://www.mouser.co.uk/ProductDetail/STMicroelectronics/STM32H747BIT6?qs=vLWxofP3U2wScK44YDio2w%3D%3D; Arrow Part Number: STM32H747BIT6; Arrow Price/Stock: https://www.arrow.com/en/products/stm32h747bit6/stmicroelectronics?utm_currency=USD&region=nac
footprint QFP50P3000X3000X160-208N
pins: 1 PE2, 2 PE3, 3 PE4, 4 PE5, 5 PE6, 6 VSS_1, 7 VDD_1, 8 VBAT, 9 PI8, 10 PC13, 11 PC14-OSC32_IN, 12 PC15-OSC32_OUT, 13 PI9, 14 PI10, 15 PI11, 16 VSS_2, 17 VDD_2, 18 VSSSMPS, 19 VLXSMPS, 20 VDDSMPS, 21 VFBSMPS, 22 PF0, 23 PF1, 24 PF2, 25 PF3, 26 PF4, 27 PF5, 28 VSS_3, 29 VDD_3, 30 PF6, 31 PF7, 32 PF8, 33 PF9, 34 PF10, 35 PH0-OSC_IN, 36 PH1-OSC_OUT, 37 NRST, 38 PC0, 39 PC1, 40 PC2_C, 41 PC3_C, 42 VSSA, 43 VREF+, 44 VDDA, 45 PA0, 46 PA1, 47 PA2, 48 PH2, 49 VDD_4, 50 VSS_4, 51 PH3, 52 PH4, 53 PH5, 54 PA3, 55 VSS_5, 56 VDD_5, 57 PA4, 58 PA5, 59 PA6, 60 PA7, 61 PC4, 62 PC5, 63 PB0, 64 PB1, 65 PB2, 66 PI15, 67 PF11, 68 PF12, 69 PF13, 70 PF14, 71 PF15, 72 PG0, 73 VSS_6, 74 VDD_6, 75 PG1, 76 PE7, 77 PE8, 78 PE9, 79 VSS_7, 80 VDD_7, 81 PE10, 82 PE11, 83 PE12, 84 PE13, 85 PE14, 86 PE15, 87 PB10, 88 PB11, 89 VCAP_1, 90 VSS_8, 91 VDDLDO_1, 92 PH6, 93 PH7, 94 PH8, 95 PH9, 96 PH10, 97 PH11, 98 PH12, 99 VSS_9, 100 VDD_8, 101 PB12, 102 PB13, 103 PB14, 104 PB15, 105 PD8, 106 PD9, 107 PD10, 108 VDD_9, 109 VSS_10, 110 PD11, 111 PD12, 112 PD13, 113 VSS_11, 114 VDD_10, 115 PD14, 116 PD15, 117 VDD_11, 118 VSS_12, 119 VCAPDSI, 120 VDD12DSI_1, 121 DSI_D0P, 122 DSI_D0N, 123 VSSDSI_1, 124 DSI_CKP, 125 DSI_CKN, 126 VDD12DSI_2, 127 DSI_D1P, 128 DSI_D1N, 129 VSSDSI_2, 130 PG2, 131 PG3, 132 VSS_13, 133 VDD_12, 134 PG4, 135 PG5, 136 PG6, 137 PG7, 138 PG8, 139 VSS_14, 140 VDD50USB, 141 VDD33USB, 142 PC6, 143 PC7, 144 PC8, 145 PC9, 146 PA8, 147 PA9, 148 PA10, 149 PA11, 150 PA12, 151 PA13, 152 VCAP_2, 153 VSS_15, 154 VDDLDO_2, 155 VDD_13, 156 PH13, 157 PH14, 158 PH15, 159 PI0, 160 VSS_16, 161 VDD_14, 162 PI1, 163 PI2, 164 PI3, 165 PA14, 166 PA15, 167 PC10, 168 PC11, 169 PC12, 170 PD0, 171 PD1, 172 PD2, 173 PD3, 174 PD4, 175 PD5, 176 PD6, 177 PD7, 178 VSS_17, 179 VDD_15, 180 PG9, 181 PG10, 182 PG11, 183 PG12, 184 PG13, 185 PG14, 186 VSS_18, 187 VDD_16, 188 PG15, 189 PB3, 190 PB4, 191 PB5, 192 PB6, 193 PB7, 194 BOOT0, 195 PB8, 196 PB9, 197 PE0, 198 PE1, 199 VCAP_3, 200 VSS_19, 201 PDR_ON, 202 VDDLDO_3, 203 PI4, 204 PI5, 205 PI6, 206 PI7, 207 VSS_20, 208 VDD_17

## Testpoint
designator TP?
footprint TP_5006
pins: 1

## Testpoint_1
designator TP
footprint TP_5006
pins: ?1

## TLV1872DGSR
designator IC?
Integrated Circuit; Manufacturer_Name: Texas Instruments; Manufacturer_Part_Number: TLV1872DGSR; Datasheet Link: https://www.ti.com.cn/cn/lit/ds/symlink/tlv1872.pdf?ts=1725938037960&ref_url=https%253A%252F%252Fwww.ti.com.cn%252Fproduct%252Fcn%252FTLV1872; Height: 1.1mm; Mouser Part Number: 595-TLV1872DGSR; Mouser Price/Stock: https://www.mouser.co.uk/ProductDetail/Texas-Instruments/TLV1872DGSR?qs=ZcfC38r4PotGaIsZlTBhhw%3D%3D; Arrow Part Number: TLV1872DGSR; Arrow Price/Stock: https://www.arrow.com/en/products/tlv1872dgsr/texas-instruments?utm_currency=USD&region=nac
footprint SOP50P490X110-10N (Footprint not found)
pins: 1 VEEO, 2 OUT1, 3 IN1-, 4 IN1+, 5 VEEI, 6 IN2+, 7 IN2-, 8 OUT2, 9 VCCI, 10 VCCO

## TP65B110HRU
designator SW_TUNE
Renesas bidirection GaN switch / https://www.renesas.com/en/document/dst/tp65b110hru-datasheet?r=25610905
footprint NV6428
pins: 1 S2, 2 S2, 3 S2, 4 S2, 5 S2, 6 S2, 7 SK2 (hiz), 8 G2 (hiz), 9 G1 (hiz), 10 SK1 (hiz), 11 S1, 12 S1, 13 S1, 14 S1, 15 S1, 16 S1

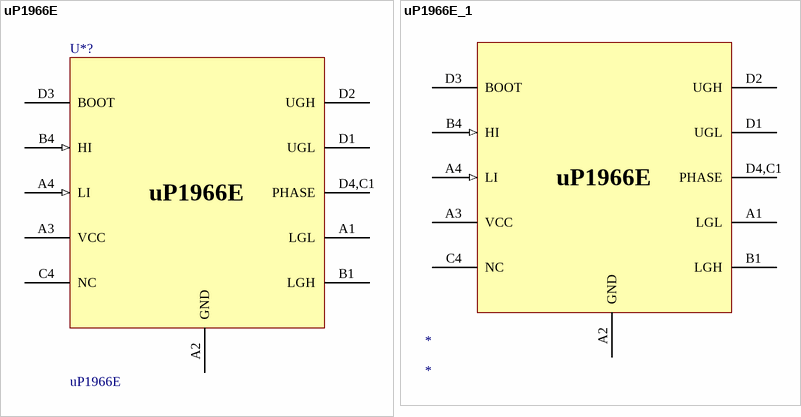
[diagram p4: symbols uP1966E to uP1966E_1]

## uP1966E
designator U*?
footprint uP1966E
pins: A1 LGL, A2 GND (power), A3 VCC (power), A4 LI (in), B1 LGH, B4 HI (in), C4 NC, D1 UGL, D2 UGH, D3 BOOT, D4,C1 PHASE

## uP1966E_1
designator *
pins: A1 LGL, A2 GND (power), A3 VCC (power), A4 LI (in), B1 LGH, B4 HI (in), C4 NC, D1 UGL, D2 UGH, D3 BOOT, D4,C1 PHASE
text: uP1966E